# EAGLE library part LTE1764 (library pmon_3v8)
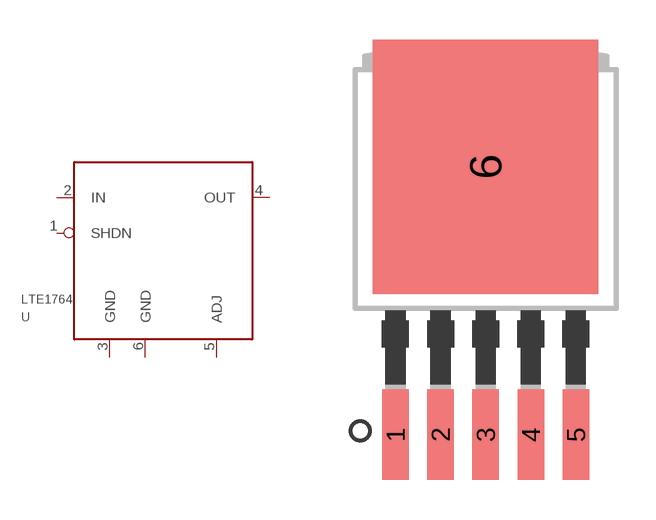
[diagram p3: symbol with the pads of TO263-5; footprint TO263-5]

Designator prefix U

## LTE1764  [TO263-5]
1  SHDN
2  IN
3  GND
4  OUT
5  ADJ
6  GND

## Footprint TO263-5 (pad centres in mm)
Transistor Outline Package P-TO263-5-1
smd 1 x 3.4: 1 -3.4,-6.6; 2 -1.7,-6.6; 3 0,-6.6; 4 1.7,-6.6; 5 3.4,-6.6
smd 8.5 x 9.6: 6 0,3.5